# Altium integrated library Degson.IntLib: 1 symbol
Pins are listed as number, name and electrical type; pins without a type are passive.

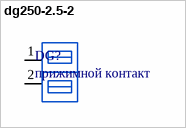
[diagram p0: symbol dg250-2.5-2]

## dg250-2.5-2
designator DG?, comment прижимной контакт
footprint PCBComponent_1
pins: 1, 2